# EAGLE library part ICS85320I (library RFWBBoard)
ICS85320I LVCMOS/LVTTL-to-differential 3.3V, 2.5V LVPECL translator Integrated Device Technology The ICS85320I is a LVCMOS / LVTTL-to-Differential 3.3V, 2.5V LVPECL translator and a member of the HiPerClocks™ family of High Performance Clocks Solutions from IDT. The ICS85320I has a single ended clock input. The single ended clock input accepts LVCMOS or LVTTL input levels and translates them to 3.3V or 2.5V LVPECL levels. The small outline 8-pin SOIC package makes this device ideal for applications where space, high performance and low power are important. One differential 2.5V/3.3V LVPECL output LVCMOS/LVTTL CLK input CLK accepts the following input levels: LVCMOS or LVTTL Maximum output frequency: 267MHz Part-to-part skew: 275ps (maximum) Additive phase jitter, RMS: 0.05ps (typical) 3.3V operating supply voltage (operating range 3.135V to 3.465V) 2.5V operating supply voltage (operating range 2.375V to 2.625V) -40°C to 85°C ambient operating temperature Available in both standard (RoHS 5) and lead-free (RoHS 6) packages Source: http://www.idt.com/sites/default/files/documents/IDT_85320I_DST_20061113.pdf
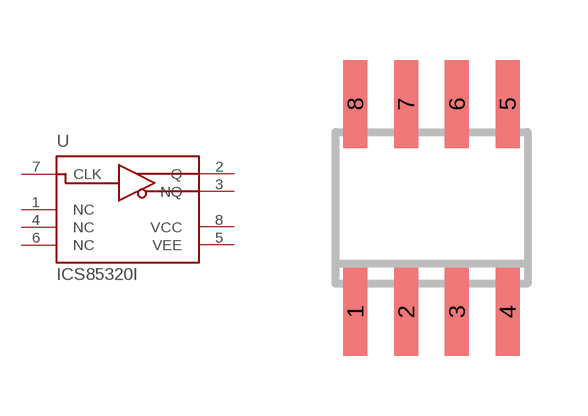
[diagram p9: symbol with the pads of SOIC8; footprint SOIC8]

Designator prefix U

## ICS85320I  [SOIC8]
1  NC  nc
2  Q  out
3  NQ  out
4  NC  nc
5  VEE  sup
6  NC  nc
7  CLK  in
8  VCC  sup

## Footprint SOIC8 (pad centres in mm)
smd 0.6 x 2.2: 1 -1.905,-2.6; 2 -0.635,-2.6; 3 0.635,-2.6; 4 1.905,-2.6; 5 1.905,2.6; 6 0.635,2.6; 7 -0.635,2.6; 8 -1.905,2.6